# EAGLE library part TC2030-IDC (library SinclairScientific)
Tag-Connect In Circuit Programming & Debug Cable 6 Pin http://www.tag-connect.com
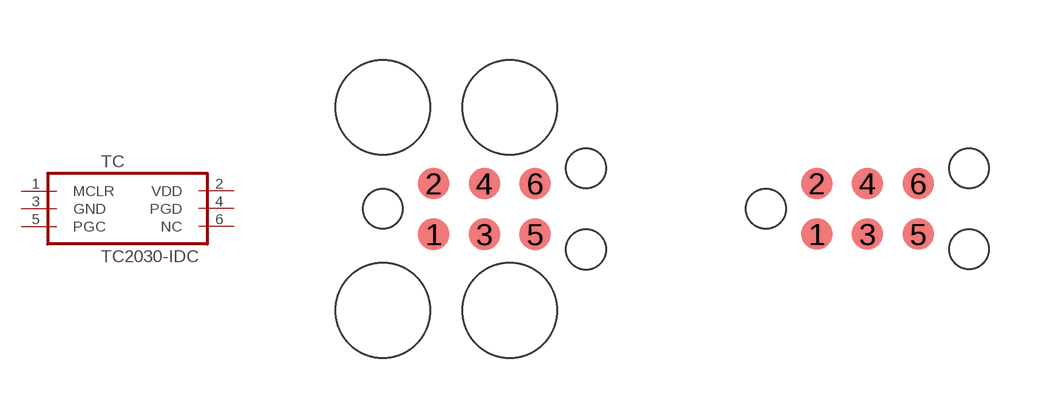
[diagram p1: symbol with the pads of TC2030-IDC; footprints TC2030-IDC, TC2030-IDC-NL]

Designator prefix TC

## TC2030-IDC (AVAILABILITY: Unavailable; DESCRIPTION: Cable Adapter 6 Pos; MF: Tag-Connect; MP: TC2030-IDC; PACKAGE: None; PRICE: None)  [TC2030-IDC]
1  MCLR  pas
2  VDD  pas
3  GND  pas
4  PGD  pas
5  PGC  pas
6  NC  pas

## TC2030-IDC-NL (AVAILABILITY: Unavailable; DESCRIPTION: Cable Adapter 6 Pos; MF: Tag-Connect; MP: TC2030-IDC; PACKAGE: None; PRICE: None)  [TC2030-IDC-NL]
Pads as for TC2030-IDC

## Footprint TC2030-IDC (pad centres in mm)
smd 0.787 x 0.787: 1 -1.27,-0.635; 2 -1.27,0.635; 3 0,-0.635; 4 0,0.635; 5 1.27,-0.635; 6 1.27,0.635
hole 0.991 at -2.54,0
hole 0.991 at 2.54,1.016
hole 0.991 at 2.54,-1.016
hole 2.375 at -2.54,2.54
hole 2.375 at -2.54,-2.54
hole 2.375 at 0.635,2.54
hole 2.375 at 0.635,-2.54

## Footprint TC2030-IDC-NL (pad centres in mm)
smd 0.787 x 0.787: 1 -1.27,-0.635; 2 -1.27,0.635; 3 0,-0.635; 4 0,0.635; 5 1.27,-0.635; 6 1.27,0.635
hole 0.991 at -2.54,0
hole 0.991 at 2.54,1.016
hole 0.991 at 2.54,-1.016